# Altium schematic symbol library Resistors.SchLib: 4 symbols
Pins are listed as number, name and electrical type; pins without a type are passive.

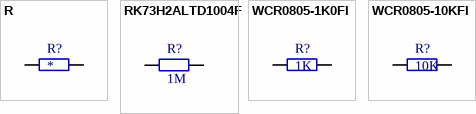
[diagram p0: symbols R to WCR0805-10KFI]

## R
designator R?
Resistor, generic
footprint R Axial 0.6 (Resistor Axial 0.6mils)
footprint R Axial 0.8 (Resistor Axial 0.8mils)
footprint R Axial 0.4 (Resistor Axial 0.4mils)
footprint R0603-0.45 (Resistor Chip 0603 Height 0.45mm)
footprint R0805-0.45 (Resistor Chip 0805 Height 0.45mm)
footprint R1206-0.55 (Resistor Chip 1206 Height 0.55mm)
footprint R1210-0.55 (Resistor Chip 1210 Height 0.55mm)
pins: 1, 2

## RK73H2ALTD1004F
designator R?, comment 1M
Thick Film Resistors - SMD 1/8watts 1Mohms 1%; Manufacturer: KOA Speer; Manufacturer Part Number: RK73H2ALTD1004F; Power Rating: 125 mW (1/8 W); Temperature Coefficient: 100 PPM / C; Voltage Rating: 150 V; Case Height: 0.5 mm; Case Length: 2 mm; Case Width: 1.25 mm; Supplier 1: Mouser; RoHS: No; Category: Thick Film Resistors - SMD; Stock 1: 0; Pricing 1: 5000=0.020, 10000=0.018, 25000=0.015, 50000=0.014 (AUD); Operating Temperature Range: - 55 C to + 155 C; Package / Case: 0805 (2012 metric); Packaging: Reel; Product: Thick Film Resistors SMD; Resistance: 1 MOhms; Series: RK73H; Tolerance: 1 %; Brand: KOA Speer; Case Code - in: 0805; Case Code - mm: 2012; Product Category: 0805 SMD Thick Film Chip Resistors; Standard Pack Qty: 5000; RoHS - Mouser: N; Minimum Order Quantity: 5000; Reeling: True; ComponentLink1URL: http://www.koaspeer.com/catimages/Products/RK73H/RK73H.pdf; ComponentLink1Description: http://www.koaspeer.com/catimages/Products/RK73H/RK73H.pdf
footprint R0805-0.45 (Resistor Chip 0805 Height 0.45mm)
pins: 1, 2

## WCR0805-1K0FI
designator R?, comment 1K
Thick Film Resistors 1K  SMD; Manufacturer: TT electronics; Manufacturer Part Number: WCR0805-1K0FI; Power Rating: 125 mW (1/8 W); Resistance: 1 kOhms; Temperature Coefficient: 100 PPM / C; Tolerance: 1 %; Voltage Rating: 150 V; Case Height: 0.02 in; Case Length: 0.079 in; Case Width: 0.049 in; Supplier 1: Mouser; Category: Thick Film Resistors - SMD; Stock 1: 0; Operating Temperature Range: - 55 C to + 155 C; Package/Case: 0805 (2012 metric); Product: Thick Film Resistors SMD; Series: WCR; Type: General Purpose Thick Film Chip Resistor; Case Code - in: 0805; Case Code - mm: 2012; Minimum Order Quantity: 1; Reeling: False; ComponentLink1URL: http://www.irctt.com/file.aspx?product_id=113&file_type=datasheet; ComponentLink1Description: http://www.irctt.com/file.aspx?product_id=113&file_type=datasheet
footprint R0805-0.45 (Resistor Chip 0805 Height 0.45mm)
pins: 1, 2

## WCR0805-10KFI
designator R?, comment 10K
Thick Film Resistors 10K SMD; Manufacturer: TT electronics; Manufacturer Part Number: WCR0805-10KFI; Power Rating: 125 mW (1/8 W); Resistance: 10 kOhms; Temperature Coefficient: 100 PPM / C; Tolerance: 1 %; Voltage Rating: 150 V; Case Height: 0.02 in; Case Length: 0.079 in; Case Width: 0.049 in; Supplier 1: Mouser; Category: Thick Film Resistors - SMD; Stock 1: 0; Operating Temperature Range: - 55 C to + 155 C; Package/Case: 0805 (2012 metric); Product: Thick Film Resistors SMD; Series: WCR; Type: General Purpose Thick Film Chip Resistor; Case Code - in: 0805; Case Code - mm: 2012; Minimum Order Quantity: 1; Reeling: False; ComponentLink1URL: http://www.irctt.com/file.aspx?product_id=113&file_type=datasheet; ComponentLink1Description: http://www.irctt.com/file.aspx?product_id=113&file_type=datasheet
footprint R0805-0.45 (Resistor Chip 0805 Height 0.45mm)
pins: 1, 2